# Altium schematic symbol library Connectors.SchLib: 3 symbols
Pins are listed as number, name and electrical type; pins without a type are passive.

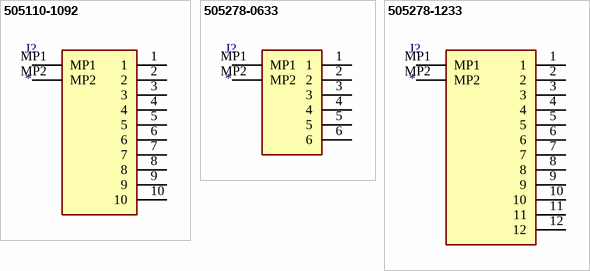
[diagram p0: symbols 505110-1092 to 505278-1233]

## 505110-1092
designator J?
Connector; Manufacturer_Name: Molex; Manufacturer_Part_Number: 505110-1092; Datasheet Link: https://www.molex.com/webdocs/datasheets/pdf/en-us/5051101092_FFC_FPC_CONNECTORS.pdf; Height: 0mm; Mouser Part Number: 538-505110-1092; Mouser Price/Stock: https://www.mouser.co.uk/ProductDetail/Molex/505110-1092?qs=BA62vJVifGrjJfo6A8tlOw%3D%3D; Arrow Part Number: 505110-1092; Arrow Price/Stock: https://www.arrow.com/en/products/505110-1092/molex
footprint 5051101092
pins: 1, 2, 3, 4, 5, 6, 7, 8, 9, 10, MP1, MP2

## 505278-0633
designator J?
Connector; Manufacturer_Name: Molex; Manufacturer_Part_Number: 505278-0633; Description: FFC & FPC Connectors 0.5 FFC ZIF BTM CONT 6Ckt R/A FRONT FLIP; Datasheet Link: https://www.molex.com/pdm_docs/sd/5052780633_sd.pdf; Height: 1mm; Mouser Part Number: 538-505278-0633; Mouser Price/Stock: https://www.mouser.co.uk/ProductDetail/Molex/505278-0633?qs=c8NFF48pVsDrsLsrcblagg%3D%3D
footprint 5052780633
pins: 1, 2, 3, 4, 5, 6, MP1, MP2

## 505278-1233
designator J?
Connector; Manufacturer_Name: Molex; Manufacturer_Part_Number: 505278-1233; Height: 3.95mm; Mouser Part Number: 538-505278-1233; Mouser Price/Stock: https://www.mouser.co.uk/ProductDetail/Molex/505278-1233?qs=c8NFF48pVsAu%2Fvh8GM55qQ%3D%3D
footprint 5052781233
pins: 1, 2, 3, 4, 5, 6, 7, 8, 9, 10, 11, 12, MP1, MP2